# Altium schematic symbol library memory_flash_nand.SchLib: 21 symbols
Pins are listed as number, name and electrical type; pins without a type are passive.

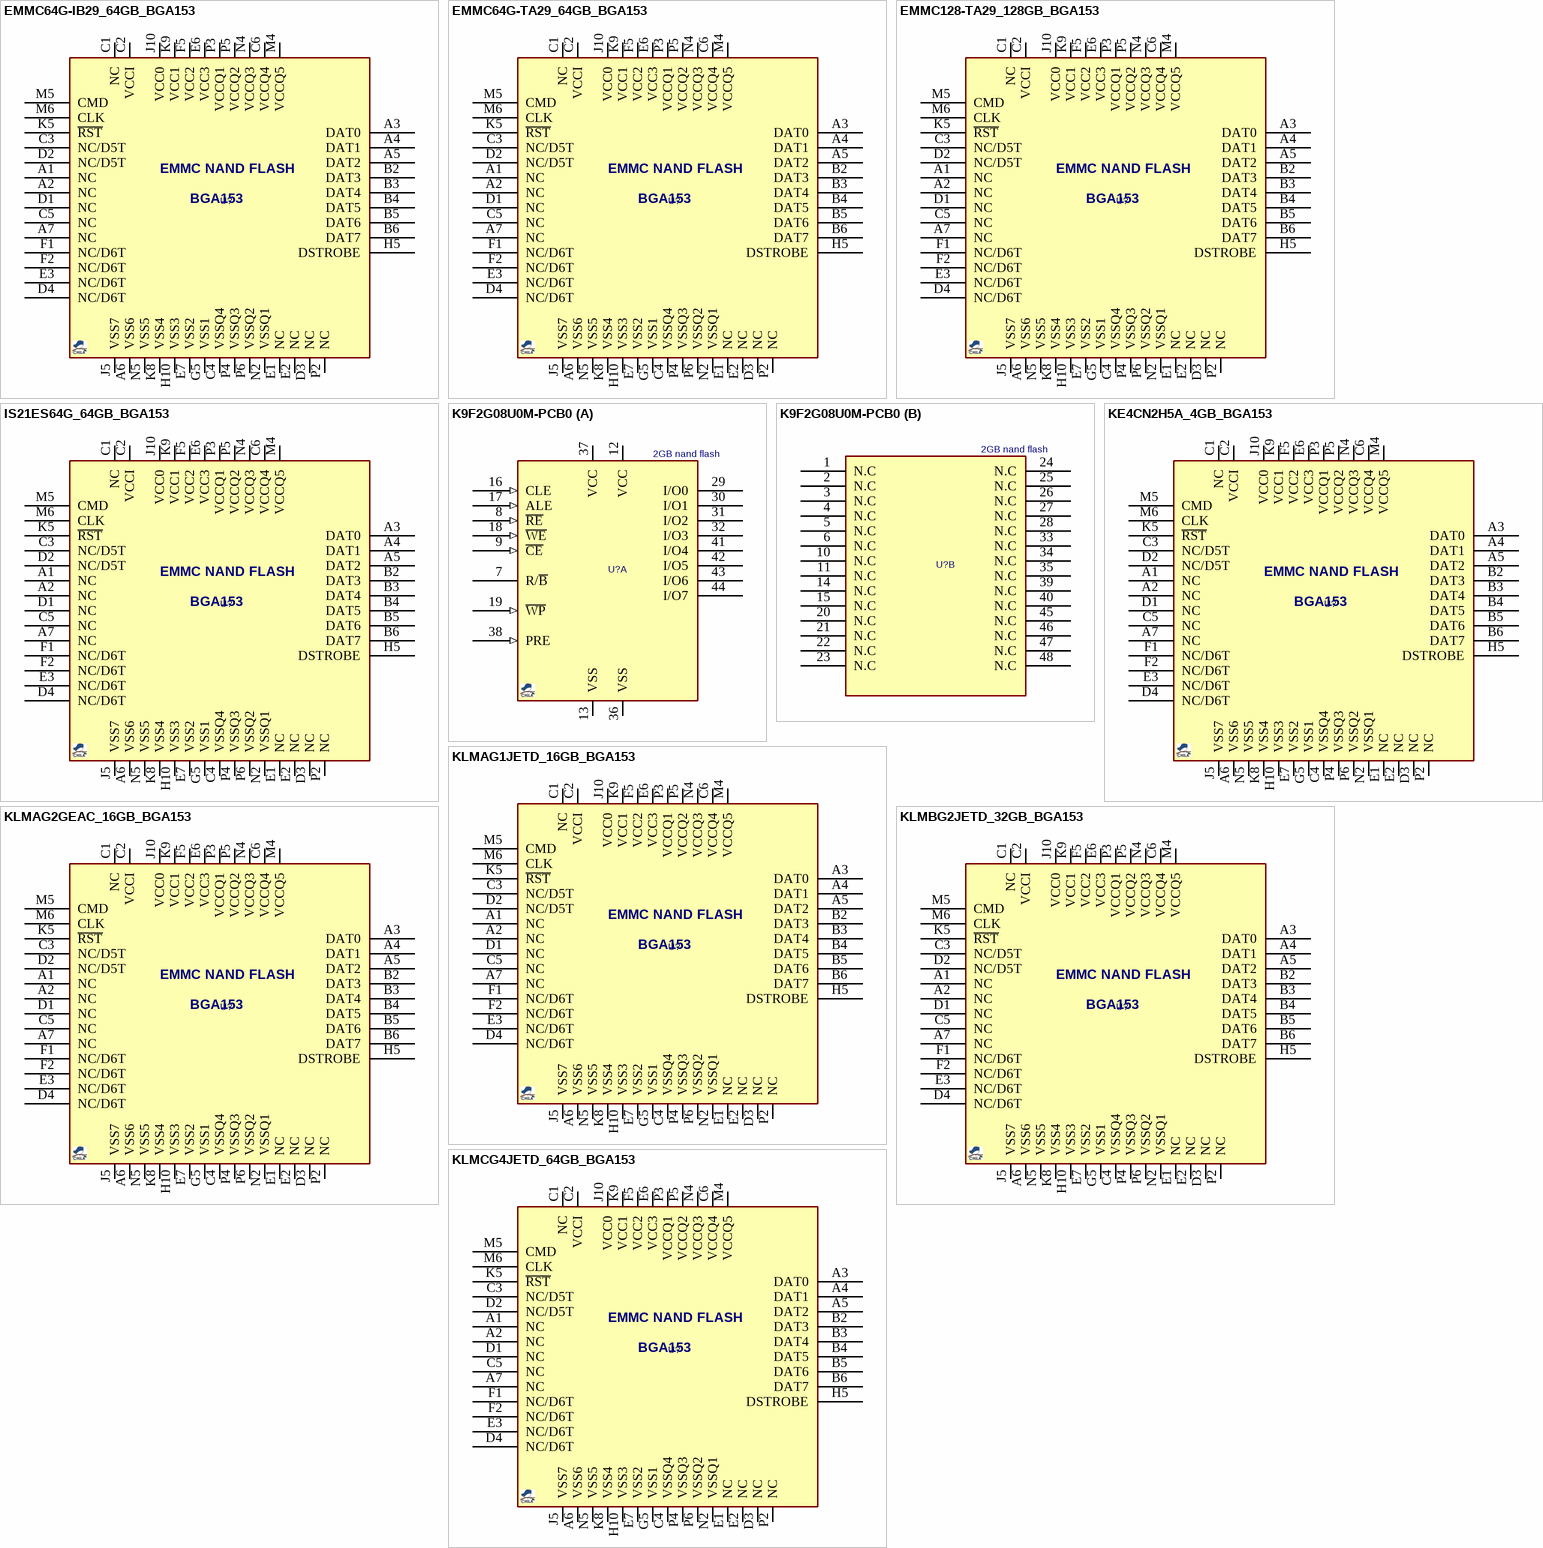
[diagram p0: symbols EMMC64G-IB29_64GB_BGA153 to KLMCG4JETD_64GB_BGA153]

## EMMC64G-IB29_64GB_BGA153
designator U?, comment eMMC_64GB  (value not drawn)
eMMC NAND FLASH, 64GB, 512Gb (64G x 8), 153-VFBGA; MANF_P#: EMMC64G-IB29; MANF: Kingston; PARAM2: 2.7~3.6V; PARAM: 64GB, 512Gb (64G x8); PRICE: 30$; VALUE: eMMC_64GB
footprint BGA50_153_EMMC (BGA 153ball, pitch:0.5mm, 11.5x13mm)
pins: A1 NC, A2 NC, A3 DAT0, A4 DAT1, A5 DAT2, A6 VSS6 (power), A7 NC, B2 DAT3, B3 DAT4, B4 DAT5, B5 DAT6, B6 DAT7, C1 NC (power), C2 VCCI (power), C3 NC/D5T, C4 VSSQ4, C5 NC (power), C6 VCCQ4, D1 NC, D2 NC/D5T, D3 NC (power), D4 NC/D6T (power), E1 NC (power), E2 NC (power), E3 NC/D6T (power), E6 VCC3 (power), E7 VSS2 (power), F1 NC/D6T (power), F2 NC/D6T (power), F5 VCC2 (power), G5 VSS1 (power), H5 DSTROBE, H10 VSS3 (power), J5 VSS7 (power), J10 VCC0, K5 ~{RST}, K8 VSS4 (power), K9 VCC1 (power), M4 VCCQ5 (power), M5 CMD, M6 CLK, N2 VSSQ1 (power), N4 VCCQ3 (power), N5 VSS5 (power), P2 NC (power), P3 VCCQ1 (power), P4 VSSQ3 (power), P5 VCCQ2 (power), P6 VSSQ2 (power)
text: EMMC NAND FLASH; BGA153

## EMMC64G-TA29_64GB_BGA153
designator U?, comment eMMC_64GB  (value not drawn)
eMMC NAND FLASH, 64GB, 512Gb (64G x 8), 153-VFBGA; MANF_P#: EMMC64G-TA29; MANF: Kingston; PARAM2: 2.7~3.6V; PARAM: 64GB, 512Gb (64G x8); PRICE: 30$; VALUE: eMMC_64GB
footprint BGA50_153_EMMC (BGA 153ball, pitch:0.5mm, 11.5x13mm)
pins: A1 NC, A2 NC, A3 DAT0, A4 DAT1, A5 DAT2, A6 VSS6 (power), A7 NC, B2 DAT3, B3 DAT4, B4 DAT5, B5 DAT6, B6 DAT7, C1 NC (power), C2 VCCI (power), C3 NC/D5T, C4 VSSQ4, C5 NC (power), C6 VCCQ4, D1 NC, D2 NC/D5T, D3 NC (power), D4 NC/D6T (power), E1 NC (power), E2 NC (power), E3 NC/D6T (power), E6 VCC3 (power), E7 VSS2 (power), F1 NC/D6T (power), F2 NC/D6T (power), F5 VCC2 (power), G5 VSS1 (power), H5 DSTROBE, H10 VSS3 (power), J5 VSS7 (power), J10 VCC0, K5 ~{RST}, K8 VSS4 (power), K9 VCC1 (power), M4 VCCQ5 (power), M5 CMD, M6 CLK, N2 VSSQ1 (power), N4 VCCQ3 (power), N5 VSS5 (power), P2 NC (power), P3 VCCQ1 (power), P4 VSSQ3 (power), P5 VCCQ2 (power), P6 VSSQ2 (power)
text: EMMC NAND FLASH; BGA153

## EMMC128-TA29_128GB_BGA153
designator U?, comment eMMC_128GB  (value not drawn)
eMMC NAND FLASH, 128GB, 1024Gb (128G x 8), 153-VFBGA; MANF_P#: EMMC128-TA29; MANF: Kingston; PARAM2: 2.7~3.6V; PARAM: 1024Gb (128G x 8); PRICE: -; VALUE: eMMC_128GB
footprint BGA50_153_EMMC (BGA 153ball, pitch:0.5mm, 11.5x13mm)
pins: A1 NC, A2 NC, A3 DAT0, A4 DAT1, A5 DAT2, A6 VSS6 (power), A7 NC, B2 DAT3, B3 DAT4, B4 DAT5, B5 DAT6, B6 DAT7, C1 NC (power), C2 VCCI (power), C3 NC/D5T, C4 VSSQ4, C5 NC (power), C6 VCCQ4, D1 NC, D2 NC/D5T, D3 NC (power), D4 NC/D6T (power), E1 NC (power), E2 NC (power), E3 NC/D6T (power), E6 VCC3 (power), E7 VSS2 (power), F1 NC/D6T (power), F2 NC/D6T (power), F5 VCC2 (power), G5 VSS1 (power), H5 DSTROBE, H10 VSS3 (power), J5 VSS7 (power), J10 VCC0, K5 ~{RST}, K8 VSS4 (power), K9 VCC1 (power), M4 VCCQ5 (power), M5 CMD, M6 CLK, N2 VSSQ1 (power), N4 VCCQ3 (power), N5 VSS5 (power), P2 NC (power), P3 VCCQ1 (power), P4 VSSQ3 (power), P5 VCCQ2 (power), P6 VSSQ2 (power)
text: EMMC NAND FLASH; BGA153

## IS21ES64G_64GB_BGA153
designator U?, comment eMMC_64GB  (value not drawn)
eMMC NAND FLASH, 64GB, 512Gb (64G x4), 153-VFBGA; MANF_P#: IS21ES64G, IS22ES64G (AUTOMOTIVE); MANF: ISSI; PARAM2: 3.3V; PARAM: 512Gb (128G x4); PRICE: 53$; VALUE: eMMC_64GB
footprint BGA50_153_EMMC (BGA 153ball, pitch:0.5mm, 11.5x13mm)
pins: A1 NC, A2 NC, A3 DAT0, A4 DAT1, A5 DAT2, A6 VSS6 (power), A7 NC, B2 DAT3, B3 DAT4, B4 DAT5, B5 DAT6, B6 DAT7, C1 NC (power), C2 VCCI (power), C3 NC/D5T, C4 VSSQ4, C5 NC (power), C6 VCCQ4, D1 NC, D2 NC/D5T, D3 NC (power), D4 NC/D6T (power), E1 NC (power), E2 NC (power), E3 NC/D6T (power), E6 VCC3 (power), E7 VSS2 (power), F1 NC/D6T (power), F2 NC/D6T (power), F5 VCC2 (power), G5 VSS1 (power), H5 DSTROBE, H10 VSS3 (power), J5 VSS7 (power), J10 VCC0, K5 ~{RST}, K8 VSS4 (power), K9 VCC1 (power), M4 VCCQ5 (power), M5 CMD, M6 CLK, N2 VSSQ1 (power), N4 VCCQ3 (power), N5 VSS5 (power), P2 NC (power), P3 VCCQ1 (power), P4 VSSQ3 (power), P5 VCCQ2 (power), P6 VSSQ2 (power)
text: EMMC NAND FLASH; BGA153

## K9F2G08U0M-PCB0
designator U?, comment 2GB nand flash
Nand Flash, 2GB; PARAM2: 2.7~3.6V; MANF_P#: K9F2G08U0M-PCB0; MANF: SAMSUNG; VALUE: 2GB nand flash
footprint SOG50_48 (DGG TSSOP (TI), MO-153-ED (JEDEC), 48Lead, pitch: 0.5mm, 12.5x6.1x1.2mm)
part A pins: 7 R/~{B} (oc), 8 ~{RE} (in), 9 ~{CE} (in), 12 VCC (power), 13 VSS (power), 16 CLE (in), 17 ALE (in), 18 ~{WE} (in), 19 ~{WP} (in), 29 I/O0 (hiz), 30 I/O1 (hiz), 31 I/O2 (hiz), 32 I/O3 (hiz), 36 VSS (power), 37 VCC (power), 38 PRE (in), 41 I/O4 (hiz), 42 I/O5 (hiz), 43 I/O6 (hiz), 44 I/O7 (hiz)
part B pins: 1 N.C, 2 N.C, 3 N.C, 4 N.C, 5 N.C, 6 N.C, 10 N.C, 11 N.C, 14 N.C, 15 N.C, 20 N.C, 21 N.C, 22 N.C, 23 N.C, 24 N.C, 25 N.C, 26 N.C, 27 N.C, 28 N.C, 33 N.C, 34 N.C, 35 N.C, 39 N.C, 40 N.C, 45 N.C, 46 N.C, 47 N.C, 48 N.C
2 alternate drawings of the same symbol

## KE4CN2H5A_4GB_BGA153
designator U?, comment eMMC_4GB  (value not drawn)
eMMC NAND FLASH, 4GB, 32Gb (4G x 8), 153-VFBGA; MANF_P#: KE4CN2H5A; MANF: Kingston; PARAM2: 2.7~3.6V; PARAM: 4GB, 32Gb (4G x 8); VALUE: eMMC_4GB
footprint BGA50_153_EMMC (BGA 153ball, pitch:0.5mm, 11.5x13mm)
pins: A1 NC, A2 NC, A3 DAT0, A4 DAT1, A5 DAT2, A6 VSS6 (power), A7 NC, B2 DAT3, B3 DAT4, B4 DAT5, B5 DAT6, B6 DAT7, C1 NC (power), C2 VCCI (power), C3 NC/D5T, C4 VSSQ4, C5 NC (power), C6 VCCQ4, D1 NC, D2 NC/D5T, D3 NC (power), D4 NC/D6T (power), E1 NC (power), E2 NC (power), E3 NC/D6T (power), E6 VCC3 (power), E7 VSS2 (power), F1 NC/D6T (power), F2 NC/D6T (power), F5 VCC2 (power), G5 VSS1 (power), H5 DSTROBE, H10 VSS3 (power), J5 VSS7 (power), J10 VCC0, K5 ~{RST}, K8 VSS4 (power), K9 VCC1 (power), M4 VCCQ5 (power), M5 CMD, M6 CLK, N2 VSSQ1 (power), N4 VCCQ3 (power), N5 VSS5 (power), P2 NC (power), P3 VCCQ1 (power), P4 VSSQ3 (power), P5 VCCQ2 (power), P6 VSSQ2 (power)
text: EMMC NAND FLASH; BGA153

## KLMAG1JETD_16GB_BGA153
designator U?, comment eMMC_16GB  (value not drawn)
eMMC NAND FLASH, 16GB, 128Gb (16G x 8), 153-VFBGA; MANF_P#: KLMAG1JETD-B041; MANF: Samsung; PARAM2: 2.7~3.6V; PARAM: 128Gb (16G x 8); PRICE: 5$; VALUE: eMMC_16GB
footprint BGA50_153_EMMC (BGA 153ball, pitch:0.5mm, 11.5x13mm)
pins: A1 NC, A2 NC, A3 DAT0, A4 DAT1, A5 DAT2, A6 VSS6 (power), A7 NC, B2 DAT3, B3 DAT4, B4 DAT5, B5 DAT6, B6 DAT7, C1 NC (power), C2 VCCI (power), C3 NC/D5T, C4 VSSQ4, C5 NC (power), C6 VCCQ4, D1 NC, D2 NC/D5T, D3 NC (power), D4 NC/D6T (power), E1 NC (power), E2 NC (power), E3 NC/D6T (power), E6 VCC3 (power), E7 VSS2 (power), F1 NC/D6T (power), F2 NC/D6T (power), F5 VCC2 (power), G5 VSS1 (power), H5 DSTROBE, H10 VSS3 (power), J5 VSS7 (power), J10 VCC0, K5 ~{RST}, K8 VSS4 (power), K9 VCC1 (power), M4 VCCQ5 (power), M5 CMD, M6 CLK, N2 VSSQ1 (power), N4 VCCQ3 (power), N5 VSS5 (power), P2 NC (power), P3 VCCQ1 (power), P4 VSSQ3 (power), P5 VCCQ2 (power), P6 VSSQ2 (power)
text: EMMC NAND FLASH; BGA153

## KLMAG2GEAC_16GB_BGA153
designator U?, comment eMMC_16GB  (value not drawn)
eMMC NAND FLASH, 16GB, 128Gb (16G x 8), 153-VFBGA; MANF_P#: KLMAG2GEAC-B031; MANF: Samsung; PARAM2: 2.7~3.6V; PARAM: 128Gb (16G x 8); PRICE: 5$; VALUE: eMMC_16GB
footprint BGA50_153_EMMC (BGA 153ball, pitch:0.5mm, 11.5x13mm)
pins: A1 NC, A2 NC, A3 DAT0, A4 DAT1, A5 DAT2, A6 VSS6 (power), A7 NC, B2 DAT3, B3 DAT4, B4 DAT5, B5 DAT6, B6 DAT7, C1 NC (power), C2 VCCI (power), C3 NC/D5T, C4 VSSQ4, C5 NC (power), C6 VCCQ4, D1 NC, D2 NC/D5T, D3 NC (power), D4 NC/D6T (power), E1 NC (power), E2 NC (power), E3 NC/D6T (power), E6 VCC3 (power), E7 VSS2 (power), F1 NC/D6T (power), F2 NC/D6T (power), F5 VCC2 (power), G5 VSS1 (power), H5 DSTROBE, H10 VSS3 (power), J5 VSS7 (power), J10 VCC0, K5 ~{RST}, K8 VSS4 (power), K9 VCC1 (power), M4 VCCQ5 (power), M5 CMD, M6 CLK, N2 VSSQ1 (power), N4 VCCQ3 (power), N5 VSS5 (power), P2 NC (power), P3 VCCQ1 (power), P4 VSSQ3 (power), P5 VCCQ2 (power), P6 VSSQ2 (power)
text: EMMC NAND FLASH; BGA153

## KLMBG2JETD_32GB_BGA153
designator U?, comment eMMC_32GB  (value not drawn)
eMMC NAND FLASH, 32GB, 256Gb (32G x 8), 153-VFBGA; MANF_P#: KLMBG2JETD-B041; MANF: Samsung; PARAM2: 2.7~3.6V; PARAM: 256Gb (32G x 8); PRICE: 10$; VALUE: eMMC_32GB
footprint BGA50_153_EMMC (BGA 153ball, pitch:0.5mm, 11.5x13mm)
pins: A1 NC, A2 NC, A3 DAT0, A4 DAT1, A5 DAT2, A6 VSS6 (power), A7 NC, B2 DAT3, B3 DAT4, B4 DAT5, B5 DAT6, B6 DAT7, C1 NC (power), C2 VCCI (power), C3 NC/D5T, C4 VSSQ4, C5 NC (power), C6 VCCQ4, D1 NC, D2 NC/D5T, D3 NC (power), D4 NC/D6T (power), E1 NC (power), E2 NC (power), E3 NC/D6T (power), E6 VCC3 (power), E7 VSS2 (power), F1 NC/D6T (power), F2 NC/D6T (power), F5 VCC2 (power), G5 VSS1 (power), H5 DSTROBE, H10 VSS3 (power), J5 VSS7 (power), J10 VCC0, K5 ~{RST}, K8 VSS4 (power), K9 VCC1 (power), M4 VCCQ5 (power), M5 CMD, M6 CLK, N2 VSSQ1 (power), N4 VCCQ3 (power), N5 VSS5 (power), P2 NC (power), P3 VCCQ1 (power), P4 VSSQ3 (power), P5 VCCQ2 (power), P6 VSSQ2 (power)
text: EMMC NAND FLASH; BGA153

## KLMCG4JETD_64GB_BGA153
designator U?, comment eMMC_64GB  (value not drawn)
eMMC NAND FLASH, 64GB,512Gb (64G x 8), 153-VFBGA; MANF_P#: KLMCG4JETD-B041; MANF: SAMSUNG; PARAM2: 2.7~3.6V; PARAM: 512Gb (64G x 8), 52MHz; PRICE: 20$; VALUE: eMMC_64GB
footprint BGA50_153_EMMC (BGA 153ball, pitch:0.5mm, 11.5x13mm)
pins: A1 NC, A2 NC, A3 DAT0, A4 DAT1, A5 DAT2, A6 VSS6 (power), A7 NC, B2 DAT3, B3 DAT4, B4 DAT5, B5 DAT6, B6 DAT7, C1 NC (power), C2 VCCI (power), C3 NC/D5T, C4 VSSQ4, C5 NC (power), C6 VCCQ4, D1 NC, D2 NC/D5T, D3 NC (power), D4 NC/D6T (power), E1 NC (power), E2 NC (power), E3 NC/D6T (power), E6 VCC3 (power), E7 VSS2 (power), F1 NC/D6T (power), F2 NC/D6T (power), F5 VCC2 (power), G5 VSS1 (power), H5 DSTROBE, H10 VSS3 (power), J5 VSS7 (power), J10 VCC0, K5 ~{RST}, K8 VSS4 (power), K9 VCC1 (power), M4 VCCQ5 (power), M5 CMD, M6 CLK, N2 VSSQ1 (power), N4 VCCQ3 (power), N5 VSS5 (power), P2 NC (power), P3 VCCQ1 (power), P4 VSSQ3 (power), P5 VCCQ2 (power), P6 VSSQ2 (power)
text: EMMC NAND FLASH; BGA153

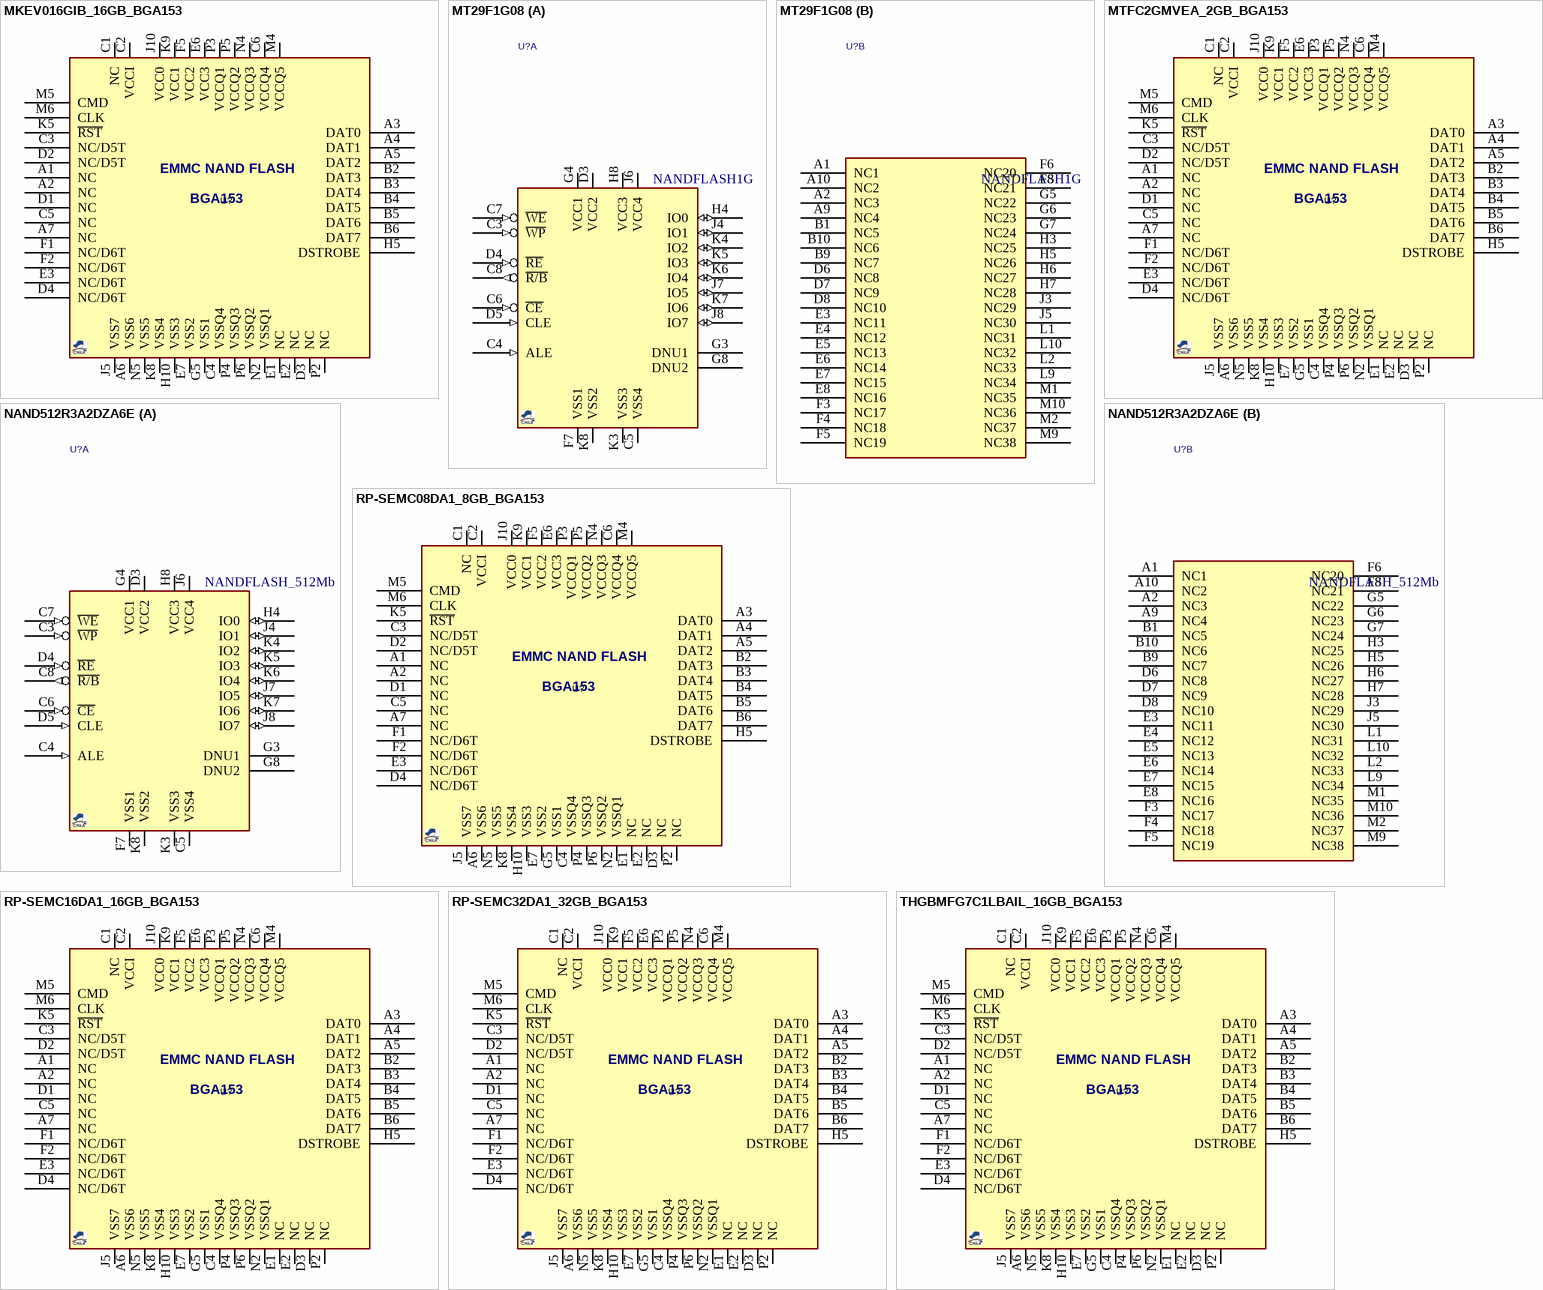
[diagram p1: symbols MKEV016GIB_16GB_BGA153 to THGBMFG7C1LBAIL_16GB_BGA153]

## MKEV016GIB_16GB_BGA153
designator U?, comment eMMC_16GB  (value not drawn)
eMMC NAND FLASH, 16GB, 128Gb (16G x 8), 153-VFBGA; MANF_P#: MKEV016GIB-OY500; MANF: MK; PARAM2: 2.7~3.6V; PARAM: 128Gb (16G x 8); PRICE: 7$; VALUE: eMMC_16GB
footprint BGA50_153_EMMC (BGA 153ball, pitch:0.5mm, 11.5x13mm)
pins: A1 NC, A2 NC, A3 DAT0, A4 DAT1, A5 DAT2, A6 VSS6 (power), A7 NC, B2 DAT3, B3 DAT4, B4 DAT5, B5 DAT6, B6 DAT7, C1 NC (power), C2 VCCI (power), C3 NC/D5T, C4 VSSQ4, C5 NC (power), C6 VCCQ4, D1 NC, D2 NC/D5T, D3 NC (power), D4 NC/D6T (power), E1 NC (power), E2 NC (power), E3 NC/D6T (power), E6 VCC3 (power), E7 VSS2 (power), F1 NC/D6T (power), F2 NC/D6T (power), F5 VCC2 (power), G5 VSS1 (power), H5 DSTROBE, H10 VSS3 (power), J5 VSS7 (power), J10 VCC0, K5 ~{RST}, K8 VSS4 (power), K9 VCC1 (power), M4 VCCQ5 (power), M5 CMD, M6 CLK, N2 VSSQ1 (power), N4 VCCQ3 (power), N5 VSS5 (power), P2 NC (power), P3 VCCQ1 (power), P4 VSSQ3 (power), P5 VCCQ2 (power), P6 VSSQ2 (power)
text: EMMC NAND FLASH; BGA153

## MT29F1G08
designator U?, comment NANDFLASH1G
NAND FLASH, 1G, VFBGA 63P; MANF_P#: MT29F1G08ABBDAHC:D; MANF: MICRON; MANF_P#2: NUMONYX_NAND512R3A2DZA6E; VALUE: NANDFLASH1G
footprint BGA80_63_12X14 (Footprint not found)
part A pins: C3 ~{WP} (in), C4 ALE (in), C5 VSS4 (power), C6 ~{CE} (in), C7 ~{WE} (in), C8 ~{R/B} (out), D3 VCC2 (power), D4 ~{RE} (in), D5 CLE (in), F7 VSS1 (power), G3 DNU1, G4 VCC1 (power), G8 DNU2, H4 IO0 (io), H8 VCC3 (power), J4 IO1 (io), J6 VCC4 (power), J7 IO5 (io), J8 IO7 (io), K3 VSS3 (power), K4 IO2 (io), K5 IO3 (io), K6 IO4 (io), K7 IO6 (io), K8 VSS2 (power)
part B pins: A1 NC1, A2 NC3, A9 NC4, A10 NC2, B1 NC5, B9 NC7, B10 NC6, D6 NC8, D7 NC9, D8 NC10, E3 NC11, E4 NC12, E5 NC13, E6 NC14, E7 NC15, E8 NC16, F3 NC17, F4 NC18, F5 NC19, F6 NC20, F8 NC21, G5 NC22, G6 NC23, G7 NC24, H3 NC25, H5 NC26, H6 NC27, H7 NC28, J3 NC29, J5 NC30, L1 NC31, L2 NC33, L9 NC34, L10 NC32, M1 NC35, M2 NC37, M9 NC38, M10 NC36

## MTFC2GMVEA_2GB_BGA153
designator U?, comment eMMC_2GB  (value not drawn)
eMMC NAND FLASH, 2GB, 16Gb (2G x 8), 153-VFBGA; MANF_P#: MTFC2GMVEA-0M WT; MANF: Micron; PARAM2: 2.7~3.6V; VALUE: eMMC_2GB
footprint BGA50_153_EMMC (BGA 153ball, pitch:0.5mm, 11.5x13mm)
pins: A1 NC, A2 NC, A3 DAT0, A4 DAT1, A5 DAT2, A6 VSS6 (power), A7 NC, B2 DAT3, B3 DAT4, B4 DAT5, B5 DAT6, B6 DAT7, C1 NC (power), C2 VCCI (power), C3 NC/D5T, C4 VSSQ4, C5 NC (power), C6 VCCQ4, D1 NC, D2 NC/D5T, D3 NC (power), D4 NC/D6T (power), E1 NC (power), E2 NC (power), E3 NC/D6T (power), E6 VCC3 (power), E7 VSS2 (power), F1 NC/D6T (power), F2 NC/D6T (power), F5 VCC2 (power), G5 VSS1 (power), H5 DSTROBE, H10 VSS3 (power), J5 VSS7 (power), J10 VCC0, K5 ~{RST}, K8 VSS4 (power), K9 VCC1 (power), M4 VCCQ5 (power), M5 CMD, M6 CLK, N2 VSSQ1 (power), N4 VCCQ3 (power), N5 VSS5 (power), P2 NC (power), P3 VCCQ1 (power), P4 VSSQ3 (power), P5 VCCQ2 (power), P6 VSSQ2 (power)
text: EMMC NAND FLASH; BGA153

## NAND512R3A2DZA6E
designator U?, comment NANDFLASH_512Mb
NAND FLASH, 512Mb, VFBGA 63P; MANF_P#: NAND512R3A2DZA6E; MANF: NUMONYX; PARAM: 512Mb, 50ns; VALUE: NANDFLASH_512Mb
footprint BGA80_63_12X14 (Footprint not found)
part A pins: C3 ~{WP} (in), C4 ALE (in), C5 VSS4 (power), C6 ~{CE} (in), C7 ~{WE} (in), C8 ~{R/B} (out), D3 VCC2 (power), D4 ~{RE} (in), D5 CLE (in), F7 VSS1 (power), G3 DNU1, G4 VCC1 (power), G8 DNU2, H4 IO0 (io), H8 VCC3 (power), J4 IO1 (io), J6 VCC4 (power), J7 IO5 (io), J8 IO7 (io), K3 VSS3 (power), K4 IO2 (io), K5 IO3 (io), K6 IO4 (io), K7 IO6 (io), K8 VSS2 (power)
part B pins: A1 NC1, A2 NC3, A9 NC4, A10 NC2, B1 NC5, B9 NC7, B10 NC6, D6 NC8, D7 NC9, D8 NC10, E3 NC11, E4 NC12, E5 NC13, E6 NC14, E7 NC15, E8 NC16, F3 NC17, F4 NC18, F5 NC19, F6 NC20, F8 NC21, G5 NC22, G6 NC23, G7 NC24, H3 NC25, H5 NC26, H6 NC27, H7 NC28, J3 NC29, J5 NC30, L1 NC31, L2 NC33, L9 NC34, L10 NC32, M1 NC35, M2 NC37, M9 NC38, M10 NC36

## RP-SEMC08DA1_8GB_BGA153
designator U?, comment eMMC_8GB  (value not drawn)
eMMC NAND FLASH, 8GB, 64Gb (8G x 8), 153-VFBGA; MANF_P#: RP-SEMC08DA1; MANF: Panasonic; PARAM2: 2.7~3.6V; PARAM: 64Gb (8G x 8), -40~85oC; PRICE: 18$; VALUE: eMMC_8GB
footprint BGA50_153_EMMC (BGA 153ball, pitch:0.5mm, 11.5x13mm)
pins: A1 NC, A2 NC, A3 DAT0, A4 DAT1, A5 DAT2, A6 VSS6 (power), A7 NC, B2 DAT3, B3 DAT4, B4 DAT5, B5 DAT6, B6 DAT7, C1 NC (power), C2 VCCI (power), C3 NC/D5T, C4 VSSQ4, C5 NC (power), C6 VCCQ4, D1 NC, D2 NC/D5T, D3 NC (power), D4 NC/D6T (power), E1 NC (power), E2 NC (power), E3 NC/D6T (power), E6 VCC3 (power), E7 VSS2 (power), F1 NC/D6T (power), F2 NC/D6T (power), F5 VCC2 (power), G5 VSS1 (power), H5 DSTROBE, H10 VSS3 (power), J5 VSS7 (power), J10 VCC0, K5 ~{RST}, K8 VSS4 (power), K9 VCC1 (power), M4 VCCQ5 (power), M5 CMD, M6 CLK, N2 VSSQ1 (power), N4 VCCQ3 (power), N5 VSS5 (power), P2 NC (power), P3 VCCQ1 (power), P4 VSSQ3 (power), P5 VCCQ2 (power), P6 VSSQ2 (power)
text: EMMC NAND FLASH; BGA153

## RP-SEMC16DA1_16GB_BGA153
designator U?, comment eMMC_16GB  (value not drawn)
eMMC NAND FLASH, 16GB, 128Gb (16G x 8), 153-VFBGA; MANF_P#: RP-SEMC16DA1; MANF: Panasonic; PARAM2: 2.7~3.6V; PARAM: 128Gb (16G x 8); VALUE: eMMC_16GB
footprint BGA50_153_EMMC (BGA 153ball, pitch:0.5mm, 11.5x13mm)
pins: A1 NC, A2 NC, A3 DAT0, A4 DAT1, A5 DAT2, A6 VSS6 (power), A7 NC, B2 DAT3, B3 DAT4, B4 DAT5, B5 DAT6, B6 DAT7, C1 NC (power), C2 VCCI (power), C3 NC/D5T, C4 VSSQ4, C5 NC (power), C6 VCCQ4, D1 NC, D2 NC/D5T, D3 NC (power), D4 NC/D6T (power), E1 NC (power), E2 NC (power), E3 NC/D6T (power), E6 VCC3 (power), E7 VSS2 (power), F1 NC/D6T (power), F2 NC/D6T (power), F5 VCC2 (power), G5 VSS1 (power), H5 DSTROBE, H10 VSS3 (power), J5 VSS7 (power), J10 VCC0, K5 ~{RST}, K8 VSS4 (power), K9 VCC1 (power), M4 VCCQ5 (power), M5 CMD, M6 CLK, N2 VSSQ1 (power), N4 VCCQ3 (power), N5 VSS5 (power), P2 NC (power), P3 VCCQ1 (power), P4 VSSQ3 (power), P5 VCCQ2 (power), P6 VSSQ2 (power)
text: EMMC NAND FLASH; BGA153

## RP-SEMC32DA1_32GB_BGA153
designator U?, comment eMMC_32GB  (value not drawn)
eMMC NAND FLASH, 32GB, 256Gb (32G x 8), 153-VFBGA; MANF_P#: RP-SEMC32DA1; MANF: Panasonic; PARAM2: 2.7~3.6V; PARAM: 256Gb (32G x 8); VALUE: eMMC_32GB
footprint BGA50_153_EMMC (BGA 153ball, pitch:0.5mm, 11.5x13mm)
pins: A1 NC, A2 NC, A3 DAT0, A4 DAT1, A5 DAT2, A6 VSS6 (power), A7 NC, B2 DAT3, B3 DAT4, B4 DAT5, B5 DAT6, B6 DAT7, C1 NC (power), C2 VCCI (power), C3 NC/D5T, C4 VSSQ4, C5 NC (power), C6 VCCQ4, D1 NC, D2 NC/D5T, D3 NC (power), D4 NC/D6T (power), E1 NC (power), E2 NC (power), E3 NC/D6T (power), E6 VCC3 (power), E7 VSS2 (power), F1 NC/D6T (power), F2 NC/D6T (power), F5 VCC2 (power), G5 VSS1 (power), H5 DSTROBE, H10 VSS3 (power), J5 VSS7 (power), J10 VCC0, K5 ~{RST}, K8 VSS4 (power), K9 VCC1 (power), M4 VCCQ5 (power), M5 CMD, M6 CLK, N2 VSSQ1 (power), N4 VCCQ3 (power), N5 VSS5 (power), P2 NC (power), P3 VCCQ1 (power), P4 VSSQ3 (power), P5 VCCQ2 (power), P6 VSSQ2 (power)
text: EMMC NAND FLASH; BGA153

## THGBMFG7C1LBAIL_16GB_BGA153
designator U?, comment eMMC_16GB  (value not drawn)
eMMC NAND FLASH, 16GB, 128Gb (16G x 8), 153-VFBGA; MANF_P#: THGBMFG7C1LBAIL; MANF: TOSHIBA; PARAM2: 2.7~3.6V; MANF_P#2: THGBMHG7C1LBAIL; PARAM: 128Gb (16G x 8); PRICE: 6$; VALUE: eMMC_16GB
footprint BGA50_153_EMMC (BGA 153ball, pitch:0.5mm, 11.5x13mm)
pins: A1 NC, A2 NC, A3 DAT0, A4 DAT1, A5 DAT2, A6 VSS6 (power), A7 NC, B2 DAT3, B3 DAT4, B4 DAT5, B5 DAT6, B6 DAT7, C1 NC (power), C2 VCCI (power), C3 NC/D5T, C4 VSSQ4, C5 NC (power), C6 VCCQ4, D1 NC, D2 NC/D5T, D3 NC (power), D4 NC/D6T (power), E1 NC (power), E2 NC (power), E3 NC/D6T (power), E6 VCC3 (power), E7 VSS2 (power), F1 NC/D6T (power), F2 NC/D6T (power), F5 VCC2 (power), G5 VSS1 (power), H5 DSTROBE, H10 VSS3 (power), J5 VSS7 (power), J10 VCC0, K5 ~{RST}, K8 VSS4 (power), K9 VCC1 (power), M4 VCCQ5 (power), M5 CMD, M6 CLK, N2 VSSQ1 (power), N4 VCCQ3 (power), N5 VSS5 (power), P2 NC (power), P3 VCCQ1 (power), P4 VSSQ3 (power), P5 VCCQ2 (power), P6 VSSQ2 (power)
text: EMMC NAND FLASH; BGA153

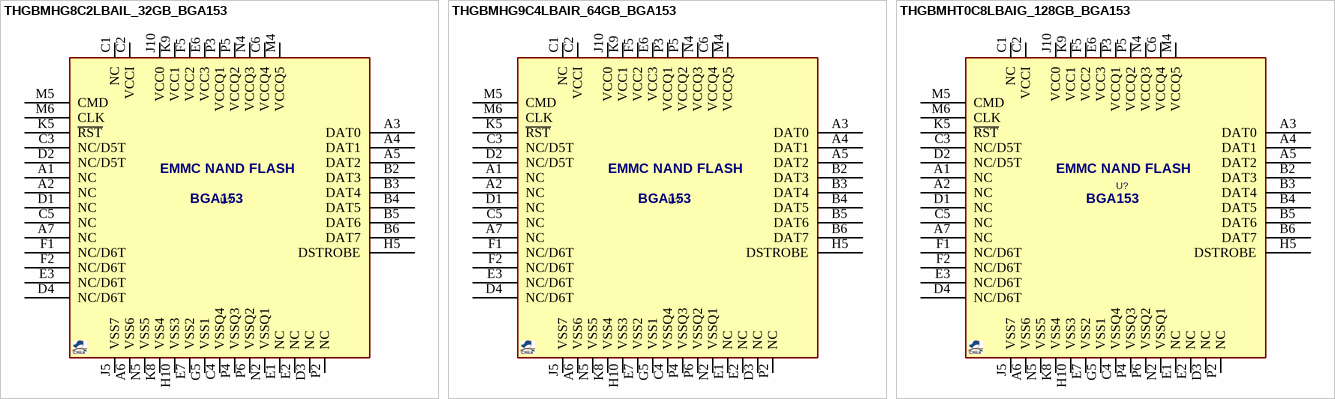
[diagram p2: symbols THGBMHG8C2LBAIL_32GB_BGA153 to THGBMHT0C8LBAIG_128GB_BGA153]

## THGBMHG8C2LBAIL_32GB_BGA153
designator U?, comment eMMC_32GB  (value not drawn)
eMMC NAND FLASH, 32GB, 256Gb (32G x 8), 153-VFBGA; MANF_P#: THGBMHG8C2LBAIL; MANF: TOSHIBA; PARAM2: 2.7~3.6V; PARAM: 256Gb (32G x 8); PRICE: 10$; VALUE: eMMC_32GB
footprint BGA50_153_EMMC (BGA 153ball, pitch:0.5mm, 11.5x13mm)
pins: A1 NC, A2 NC, A3 DAT0, A4 DAT1, A5 DAT2, A6 VSS6 (power), A7 NC, B2 DAT3, B3 DAT4, B4 DAT5, B5 DAT6, B6 DAT7, C1 NC (power), C2 VCCI (power), C3 NC/D5T, C4 VSSQ4, C5 NC (power), C6 VCCQ4, D1 NC, D2 NC/D5T, D3 NC (power), D4 NC/D6T (power), E1 NC (power), E2 NC (power), E3 NC/D6T (power), E6 VCC3 (power), E7 VSS2 (power), F1 NC/D6T (power), F2 NC/D6T (power), F5 VCC2 (power), G5 VSS1 (power), H5 DSTROBE, H10 VSS3 (power), J5 VSS7 (power), J10 VCC0, K5 ~{RST}, K8 VSS4 (power), K9 VCC1 (power), M4 VCCQ5 (power), M5 CMD, M6 CLK, N2 VSSQ1 (power), N4 VCCQ3 (power), N5 VSS5 (power), P2 NC (power), P3 VCCQ1 (power), P4 VSSQ3 (power), P5 VCCQ2 (power), P6 VSSQ2 (power)
text: EMMC NAND FLASH; BGA153

## THGBMHG9C4LBAIR_64GB_BGA153
designator U?, comment eMMC_64GB  (value not drawn)
eMMC NAND FLASH, 64GB,512Gb (64G x 8), 153-VFBGA; MANF_P#: THGBMHG9C4LBAIR; MANF: Toshiba; PARAM2: 2.7~3.6V; PARAM: 512Gb (64G x 8), 52MHz; PRICE: 53$; VALUE: eMMC_64GB
footprint BGA50_153_EMMC (BGA 153ball, pitch:0.5mm, 11.5x13mm)
pins: A1 NC, A2 NC, A3 DAT0, A4 DAT1, A5 DAT2, A6 VSS6 (power), A7 NC, B2 DAT3, B3 DAT4, B4 DAT5, B5 DAT6, B6 DAT7, C1 NC (power), C2 VCCI (power), C3 NC/D5T, C4 VSSQ4, C5 NC (power), C6 VCCQ4, D1 NC, D2 NC/D5T, D3 NC (power), D4 NC/D6T (power), E1 NC (power), E2 NC (power), E3 NC/D6T (power), E6 VCC3 (power), E7 VSS2 (power), F1 NC/D6T (power), F2 NC/D6T (power), F5 VCC2 (power), G5 VSS1 (power), H5 DSTROBE, H10 VSS3 (power), J5 VSS7 (power), J10 VCC0, K5 ~{RST}, K8 VSS4 (power), K9 VCC1 (power), M4 VCCQ5 (power), M5 CMD, M6 CLK, N2 VSSQ1 (power), N4 VCCQ3 (power), N5 VSS5 (power), P2 NC (power), P3 VCCQ1 (power), P4 VSSQ3 (power), P5 VCCQ2 (power), P6 VSSQ2 (power)
text: EMMC NAND FLASH; BGA153

## THGBMHT0C8LBAIG_128GB_BGA153
designator U?, comment eMMC_128GB  (value not drawn)
eMMC NAND FLASH, 128GB, 1024Gb (128G x 8), 153-VFBGA; MANF_P#: THGBMHG9C4LBAIR; MANF: Toshiba; PARAM2: 2.7~3.6V; PARAM: 1024Gb (128G x 8); PRICE: -; VALUE: eMMC_128GB
footprint BGA50_153_EMMC (BGA 153ball, pitch:0.5mm, 11.5x13mm)
pins: A1 NC, A2 NC, A3 DAT0, A4 DAT1, A5 DAT2, A6 VSS6 (power), A7 NC, B2 DAT3, B3 DAT4, B4 DAT5, B5 DAT6, B6 DAT7, C1 NC (power), C2 VCCI (power), C3 NC/D5T, C4 VSSQ4, C5 NC (power), C6 VCCQ4, D1 NC, D2 NC/D5T, D3 NC (power), D4 NC/D6T (power), E1 NC (power), E2 NC (power), E3 NC/D6T (power), E6 VCC3 (power), E7 VSS2 (power), F1 NC/D6T (power), F2 NC/D6T (power), F5 VCC2 (power), G5 VSS1 (power), H5 DSTROBE, H10 VSS3 (power), J5 VSS7 (power), J10 VCC0, K5 ~{RST}, K8 VSS4 (power), K9 VCC1 (power), M4 VCCQ5 (power), M5 CMD, M6 CLK, N2 VSSQ1 (power), N4 VCCQ3 (power), N5 VSS5 (power), P2 NC (power), P3 VCCQ1 (power), P4 VSSQ3 (power), P5 VCCQ2 (power), P6 VSSQ2 (power)
text: EMMC NAND FLASH; BGA153